# EAGLE library part USBLC6-2SC6 (library custom)
USBLC6 Series 2 Line 6 V Uni / Bi-Directional ESD Protection - SOT-23-6
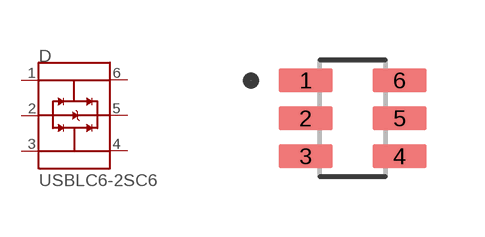
[diagram p8: symbol with the pads of SOT95P280X145-6N; footprint SOT95P280X145-6N]

Designator prefix D

## USBLC6-2SC6 (AVAILABILITY: Unavailable; DESCRIPTION: USBLC6 Series 2 Line 6 V Uni / Bi-Directional ESD Protection - SOT-23-6; MF: STMicroelectronics; MP: USBLC6-2SC6; PACKAGE: SOT-23-6 STMicroelectronics; PRICE: None)  [SOT95P280X145-6N]
1  I/O1_1
2  GND  pwr
3  I/O2_1
4  I/O2_2
5  VBUS  pwr
6  I/O1_2

## Footprint SOT95P280X145-6N (pad centres in mm)
smd 1.36 x 0.6: 1 -1.175,0.95; 2 -1.175,0; 3 -1.175,-0.95; 4 1.175,-0.95; 5 1.175,0; 6 1.175,0.95